# EAGLE library part 687132183722 (library Eagle_FPC_CONNECTOR_AND_FFC_CAB (rev18c))
687132183722 WR-FPC 0.50mm SMT Horizontal Bottom Contact - Low Profile <http://katalog.we-online.de/media/images/v2/Family_WR-FPC_6871xx183722.jpg> Details see: http://katalog.we-online.de/en/em/FPC_0_5_SMT_ZIF_HORIZONTAL_BOTTOM_CONTACT_LOW_PROFILE_6871xx183722 Created by Yingchun,shan 2016 (C) Wurth Elektronik
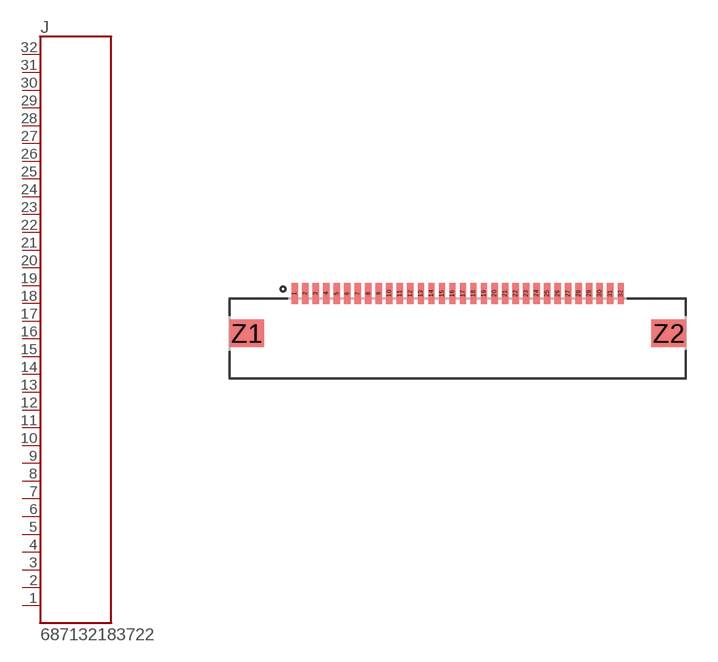
[diagram p208: symbol with the pads of 687132183722; footprint 687132183722]

Designator prefix J

## 687132183722  [687132183722]
1  32  pas
2  31  pas
3  30  pas
4  29  pas
5  28  pas
6  27  pas
7  26  pas
8  25  pas
9  24  pas
10  23  pas
11  22  pas
12  21  pas
13  20  pas
14  19  pas
15  18  pas
16  17  pas
17  16  pas
18  15  pas
19  14  pas
20  13  pas
21  12  pas
22  11  pas
23  10  pas
24  9  pas
25  8  pas
26  7  pas
27  6  pas
28  5  pas
29  4  pas
30  3  pas
31  2  pas
32  1  pas

## Footprint 687132183722 (pad centres in mm)
smd 0.3 x 1: 1 -7.75,1.9; 2 -7.25,1.9; 3 -6.75,1.9; 4 -6.25,1.9; 5 -5.75,1.9; 6 -5.25,1.9; 7 -4.75,1.9; 8 -4.25,1.9; 9 -3.75,1.9; 10 -3.25,1.9; 11 -2.75,1.9; 12 -2.25,1.9; 13 -1.75,1.9; 14 -1.25,1.9; 15 -0.75,1.9; 16 -0.25,1.9; 17 0.25,1.9; 18 0.75,1.9; 19 1.25,1.9; 20 1.75,1.9; 21 2.25,1.9; 22 2.75,1.9; 23 3.25,1.9; 24 3.75,1.9; 25 4.25,1.9; 26 4.75,1.9; 27 5.25,1.9; 28 5.75,1.9; 29 6.25,1.9; 30 6.75,1.9; 31 7.25,1.9; 32 7.75,1.9
smd 1.65 x 1.3: Z1 -10.025,0; Z2 10.025,0